# EAGLE library part MAX6818 (library maxim)
±15kV ESD-Protected Octal CMOS Switch Debouncers
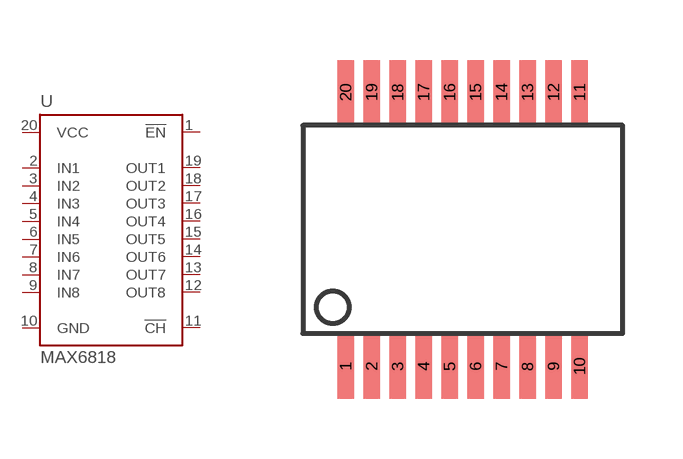
[diagram p3: symbol with the pads of SSOP-20; footprint SSOP-20]

Designator prefix U

## MAX6818  [SSOP-20]
1  !EN
2  IN1
3  IN2
4  IN3
5  IN4
6  IN5
7  IN6
8  IN7
9  IN8
10  GND
11  !CH
12  OUT8
13  OUT7
14  OUT6
15  OUT5
16  OUT4
17  OUT3
18  OUT2
19  OUT1
20  VCC

## Footprint SSOP-20 (pad centres in mm)
smd 0.42 x 1.62: 1 -2.925,-3.425; 2 -2.275,-3.425; 3 -1.625,-3.425; 4 -0.975,-3.425; 5 -0.325,-3.425; 6 0.325,-3.425; 7 0.975,-3.425; 8 1.625,-3.425; 9 2.275,-3.425; 10 2.925,-3.425; 11 2.925,3.425; 12 2.275,3.425; 13 1.625,3.425; 14 0.975,3.425; 15 0.325,3.425; 16 -0.325,3.425; 17 -0.975,3.425; 18 -1.625,3.425; 19 -2.275,3.425; 20 -2.925,3.425